# Altium footprint library 不带继电器产品.PcbLib: 31 footprints (part 2 of 2)
Each footprint in its own frame and in the unit in brackets; x right, y up, seen from the top. Pads: shape width x height; smd on the part's side, far side on the other; paste and mask are expansions set on the pad; w line width, h text height; cw(c..) or ccw(c..) is an arc to the next point about the centre after c.
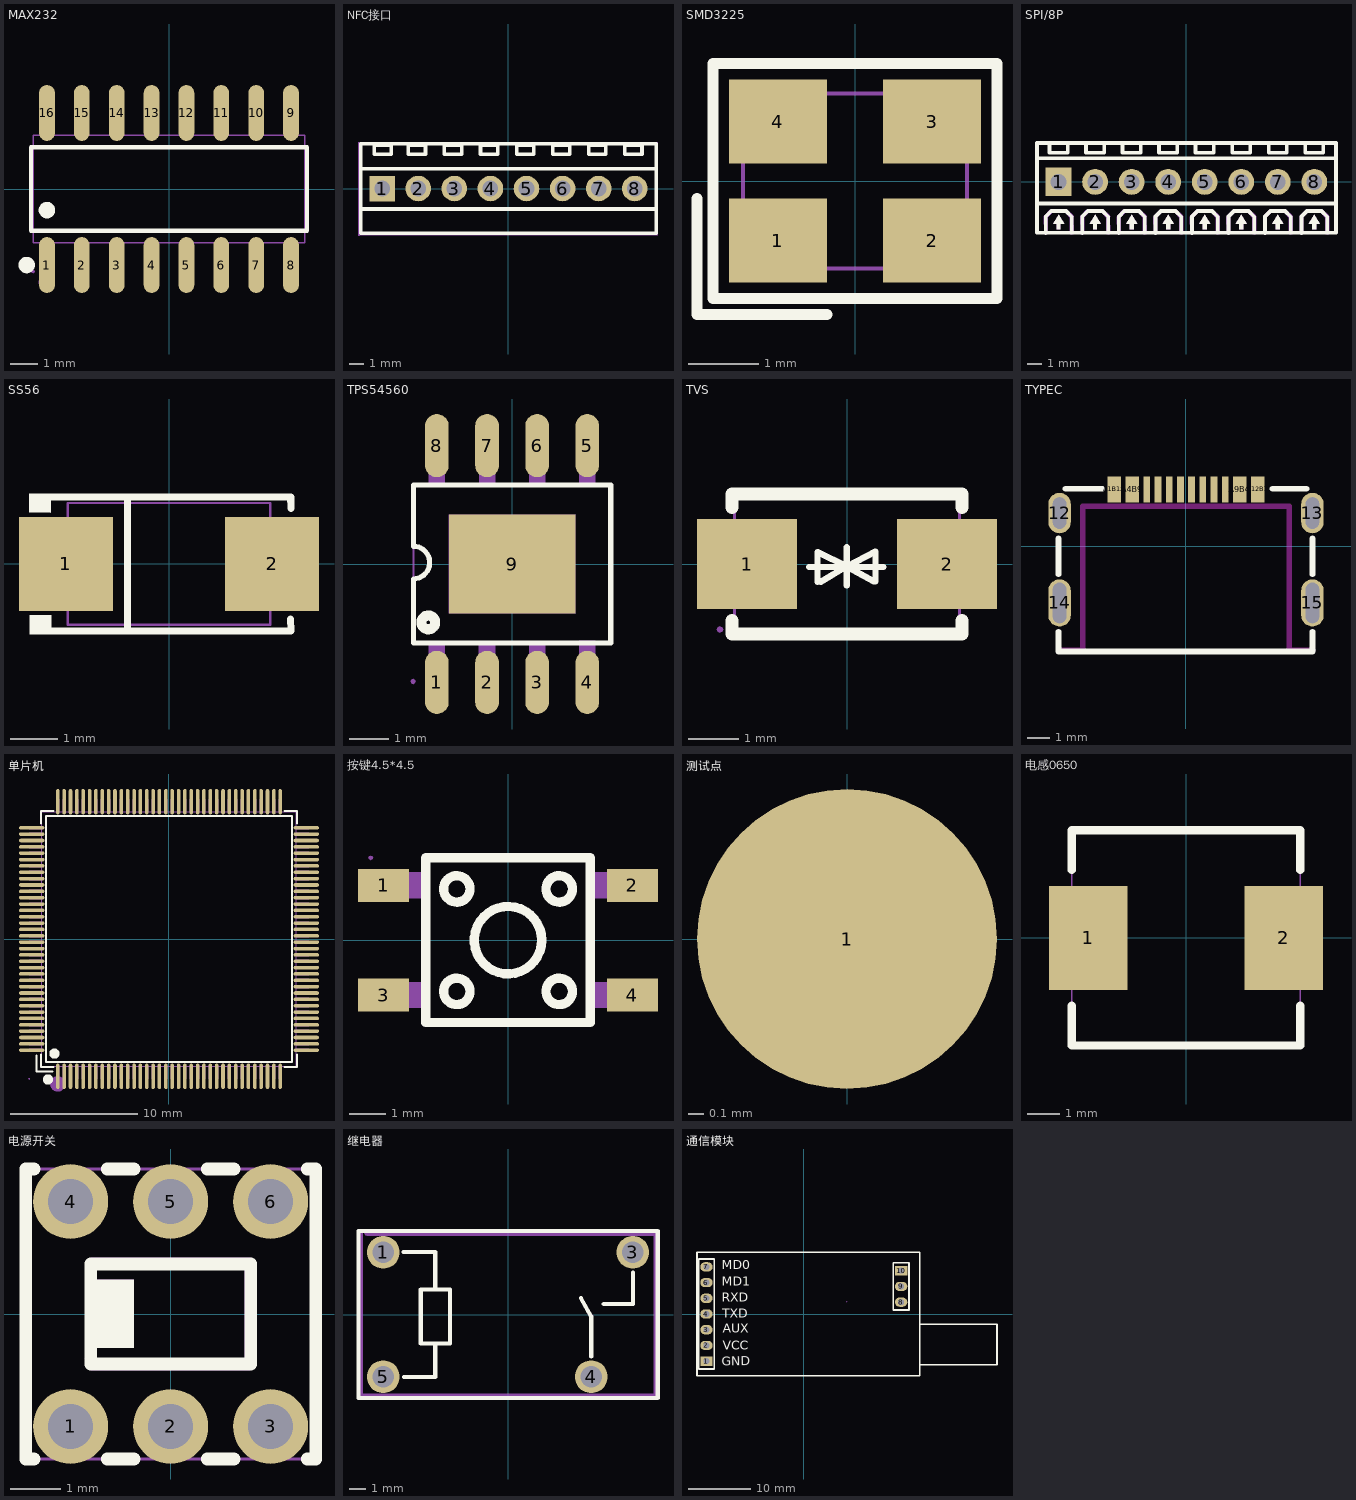
[diagram p1: the footprints below, top view; thin cyan lines are the x and y axes]

## MAX232 [mm]
pads (16):
  oval 0.574x2.038 smd: 1(-4.445,-2.769) 2(-3.175,-2.769) 3(-1.905,-2.769) 4(-0.635,-2.769) 5(0.635,-2.769) 6(1.905,-2.769) 7(3.175,-2.769) 8(4.445,-2.769) 9(4.445,2.769) 10(3.175,2.769) 11(1.905,2.769) 12(0.635,2.769) 13(-0.635,2.769) 14(-1.905,2.769) 15(-3.175,2.769) 16(-4.445,2.769)
Top Overlay:
  circle w0.3: c-4.445,-0.769 r0.15
  circle w0.3: c-5.184,-2.769 r0.15
  lines w0.152: -5.026,-1.521 5.026,-1.521 5.026,1.521 -5.026,1.521 -5.026,-1.521
Mechanical 6:
  circle w0.3: c-4.445,-3.4 r0.15
Mechanical 15:
  region: -4.886,-3 -4.904,-2.955 -4.95,-2.936 -4.996,-2.955 -5.014,-3 -4.996,-3.045 -4.95,-3.064 -4.904,-3.045
  region: 4.23,1.94 4.23,2.36 4.66,2.36 4.66,1.94
  region: 4.23,2.35 4.23,3 4.66,3 4.66,2.35
  region: 2.96,1.94 2.96,2.36 3.39,2.36 3.39,1.94
  region: 2.96,2.35 2.96,3 3.39,3 3.39,2.35
  region: 1.69,1.94 1.69,2.36 2.12,2.36 2.12,1.94
  region: 1.69,2.35 1.69,3 2.12,3 2.12,2.35
  region: 0.42,1.94 0.42,2.36 0.85,2.36 0.85,1.94
  region: 0.42,2.35 0.42,3 0.85,3 0.85,2.35
  region: -0.85,1.94 -0.85,2.36 -0.42,2.36 -0.42,1.94
  region: -0.85,2.35 -0.85,3 -0.42,3 -0.42,2.35
  region: -2.12,1.94 -2.12,2.36 -1.69,2.36 -1.69,1.94
  region: -2.12,2.35 -2.12,3 -1.69,3 -1.69,2.35
  region: -3.39,1.94 -3.39,2.36 -2.96,2.36 -2.96,1.94
  region: -3.39,2.35 -3.39,3 -2.96,3 -2.96,2.35
  region: -4.66,1.94 -4.66,2.36 -4.23,2.36 -4.23,1.94
  region: -4.66,2.35 -4.66,3 -4.23,3 -4.23,2.35
  region: 4.23,-2.36 4.23,-1.94 4.66,-1.94 4.66,-2.36
  region: 4.23,-3 4.23,-2.35 4.66,-2.35 4.66,-3
  region: 2.96,-2.36 2.96,-1.94 3.39,-1.94 3.39,-2.36
  region: 2.96,-3 2.96,-2.35 3.39,-2.35 3.39,-3
  region: 1.69,-2.36 1.69,-1.94 2.12,-1.94 2.12,-2.36
  region: 1.69,-3 1.69,-2.35 2.12,-2.35 2.12,-3
  region: 0.42,-2.36 0.42,-1.94 0.85,-1.94 0.85,-2.36
  region: 0.42,-3 0.42,-2.35 0.85,-2.35 0.85,-3
  region: -0.85,-2.36 -0.85,-1.94 -0.42,-1.94 -0.42,-2.36
  region: -0.85,-3 -0.85,-2.35 -0.42,-2.35 -0.42,-3
  region: -2.12,-2.36 -2.12,-1.94 -1.69,-1.94 -1.69,-2.36
  region: -2.12,-3 -2.12,-2.35 -1.69,-2.35 -1.69,-3
  region: -3.39,-2.36 -3.39,-1.94 -2.96,-1.94 -2.96,-2.36
  region: -3.39,-3 -3.39,-2.35 -2.96,-2.35 -2.96,-3
  region: -4.66,-2.36 -4.66,-1.94 -4.23,-1.94 -4.23,-2.36
  region: -4.66,-3 -4.66,-2.35 -4.23,-2.35 -4.23,-3
  lines w0.051: -4.95,-1.95 -4.95,1.95 4.95,1.95 4.95,-1.95 -4.95,-1.95

## NFC接口 [mm]
pads (8):
  rect 1.8x1.8 hole 1.1: 1(-8.89,0)
  round 1.8 hole 1.1: 2(-6.35,0) 3(-3.81,0) 4(-1.27,0) 5(1.27,0) 6(3.81,0) 7(6.35,0) 8(8.89,0)
Top Overlay:
  lines w0.254: -10.4,-1.443 10.4,-1.443 ; -10.4,1.395 10.4,1.395 ; -10.4,-3.14 10.4,-3.14 10.4,3.139 -10.4,3.139 -10.4,-3.14 ; -9.461,2.413 -9.461,3.048 -8.255,3.048 -8.255,2.413 -9.461,2.413 ; -7.048,2.413 -7.048,3.048 -5.842,3.048 -5.842,2.413 -7.048,2.413 ; -4.508,2.413 -4.508,3.048 -3.302,3.048 -3.302,2.413 -4.508,2.413 ; -1.968,2.413 -1.968,3.048 -0.762,3.048 -0.762,2.413 -1.968,2.413 ; 0.572,2.413 0.572,3.048 1.778,3.048 1.778,2.413 0.572,2.413 ; 3.111,2.413 3.111,3.048 4.318,3.048 4.318,2.413 3.111,2.413 ; 5.651,2.413 5.651,3.048 6.858,3.048 6.858,2.413 5.651,2.413 ; 8.191,2.413 8.191,3.048 9.398,3.048 9.398,2.413 8.191,2.413
Mechanical 15:
  drawing of 13 lines, arcs and shapes, not listed

## SMD3225 [mm]
pads (4):
  rect 1.4x1.2 smd: 1(-1.1,-0.85) 2(1.1,-0.85) 3(1.1,0.85) 4(-1.1,0.85)
Top Overlay:
  lines w0.152: -2.257,-0.25 -2.257,-1.907 -0.4,-1.907 ; -2.029,-1.678 -2.029,1.679 2.029,1.679 2.029,-1.678 -2.029,-1.678
Mechanical 6:
  circle w0.254: c-1.27,-0.889 r0.127
Mechanical 15:
  region: -1.535,-1.25 -1.554,-1.204 -1.6,-1.185 -1.646,-1.204 -1.665,-1.25 -1.646,-1.296 -1.6,-1.315 -1.554,-1.296 -1.535,-1.25
  region: -1.5,1.15 -0.6,1.15 -0.6,0.35 -1.5,0.35
  region: 0.6,1.15 1.5,1.15 1.5,0.35 0.6,0.35
  region: 0.6,-0.35 1.5,-0.35 1.5,-1.15 0.6,-1.15
  region: -1.5,-0.35 -0.6,-0.35 -0.6,-1.15 -1.5,-1.15
  lines w0.051: -1.6,-1.25 -1.6,1.25 1.6,1.25 1.6,-1.25 -1.6,-1.25

## SPI/8P [mm]
pads (8):
  rect 1.8x2 hole 1.1 paste+0 mask+0.05: 1(-8.89,0)
  round 1.8 hole 1.1 paste+0 mask+0.05: 2(-6.35,0) 3(-3.81,0) 4(-1.27,0) 5(1.27,0) 6(3.81,0) 7(6.35,0) 8(8.89,0)
Top Overlay:
  region: -9.271,-2.921 -8.509,-2.921 -8.89,-2.286
  region: -9.017,-2.921 -9.017,-3.302 -8.763,-3.302 -8.763,-2.921
  region: -6.731,-2.921 -5.969,-2.921 -6.35,-2.286
  region: -6.477,-2.921 -6.477,-3.302 -6.223,-3.302 -6.223,-2.921
  region: -4.191,-2.921 -3.429,-2.921 -3.81,-2.286
  region: -3.937,-2.921 -3.937,-3.302 -3.683,-3.302 -3.683,-2.921
  region: -1.651,-2.921 -0.889,-2.921 -1.27,-2.286
  region: -1.397,-2.921 -1.397,-3.302 -1.143,-3.302 -1.143,-2.921
  region: 3.429,-2.921 4.191,-2.921 3.81,-2.286
  region: 3.683,-2.921 3.683,-3.302 3.937,-3.302 3.937,-2.921
  region: 1.143,-2.921 1.143,-3.302 1.397,-3.302 1.397,-2.921
  region: 0.889,-2.921 1.651,-2.921 1.27,-2.286
  region: 5.969,-2.921 6.731,-2.921 6.35,-2.286
  region: 6.223,-2.921 6.223,-3.302 6.477,-3.302 6.477,-2.921
  region: 8.763,-2.921 8.763,-3.302 9.017,-3.302 9.017,-2.921
  region: 8.509,-2.921 9.271,-2.921 8.89,-2.286
  lines w0.254: -10.4,-1.502 5.32,-1.502 10.4,-1.502 ; -10.4,1.651 5.32,1.651 10.4,1.651 ; -9.779,-3.556 -9.779,-2.413 -9.398,-2.032 -8.382,-2.032 -7.988,-2.426 -7.988,-3.55 ; -9.527,2.7 -9.527,2.032 -8.255,2.032 -8.255,2.7 ; -7.239,-3.556 -7.239,-2.413 -6.858,-2.032 -5.842,-2.032 -5.448,-2.426 -5.448,-3.55 ; -6.987,2.7 -6.987,2.032 -5.715,2.032 -5.715,2.7 ; -4.699,-3.556 -4.699,-2.413 -4.318,-2.032 -3.302,-2.032 -2.908,-2.426 -2.908,-3.55 ; -4.447,2.7 -4.447,2.032 -3.175,2.032 -3.175,2.7 ; -2.159,-3.556 -2.159,-2.413 -1.778,-2.032 -0.762,-2.032 -0.368,-2.426 -0.368,-3.55 ; -1.907,2.7 -1.907,2.032 -0.635,2.032 -0.635,2.7 ; 0.381,-3.556 0.381,-2.413 0.762,-2.032 1.778,-2.032 2.172,-2.426 2.172,-3.55 ; 0.633,2.7 0.633,2.032 1.905,2.032 1.905,2.7 ; 2.921,-3.556 2.921,-2.413 3.302,-2.032 4.318,-2.032 4.712,-2.426 4.712,-3.55 ; 3.173,2.7 3.173,2.032 4.445,2.032 4.445,2.7 ; 5.461,-3.556 5.461,-2.413 5.842,-2.032 6.858,-2.032 7.252,-2.426 7.252,-3.55 ; 5.713,2.7 5.713,2.032 6.985,2.032 6.985,2.7 ; 8.001,-3.556 8.001,-2.413 8.382,-2.032 9.398,-2.032 9.792,-2.426 9.792,-3.55 ; 8.253,2.7 8.253,2.032 9.525,2.032 9.525,2.7 ; -10.4,-3.55 5.32,-3.55 10.4,-3.55 10.4,2.7 5.32,2.7 -10.4,2.7 -10.4,-3.55
Mechanical 6:
  drawing of 24 lines, arcs and shapes, not listed
Mechanical 15:
  region: -10.335,-3.55 -10.354,-3.504 -10.4,-3.485 -10.446,-3.504 -10.465,-3.55 -10.446,-3.596 -10.4,-3.615 -10.354,-3.596
  region: -9.24,0.25 -8.54,0.25 -8.54,-0.25 -9.24,-0.25
  region: -6.7,0.25 -6,0.25 -6,-0.25 -6.7,-0.25
  region: -4.16,0.25 -3.46,0.25 -3.46,-0.25 -4.16,-0.25
  region: -1.62,0.25 -0.92,0.25 -0.92,-0.25 -1.62,-0.25
  region: 0.92,0.25 1.62,0.25 1.62,-0.25 0.92,-0.25
  region: 3.46,0.25 4.16,0.25 4.16,-0.25 3.46,-0.25
  region: 8.54,0.25 9.24,0.25 9.24,-0.25 8.54,-0.25
  region: 6,0.25 6.7,0.25 6.7,-0.25 6,-0.25
  lines w0.051: -10.4,-3.55 -10.4,2.7 10.4,2.7 10.4,-3.55 -10.4,-3.55

## SS56 [mm]
pads (2):
  rect 2x2 smd: 1(-2.2,0) 2(2.2,0)
Top Overlay:
  region: -2.512,-1.096 -2.513,-1.503 -2.973,-1.498 -2.969,-1.096
  region: -2.52,1.502 -2.521,1.096 -2.981,1.1 -2.977,1.502
  lines w0.152: -2.596,-1.426 2.596,-1.426 ; -2.596,1.426 2.596,1.426 2.603,1.187 ; -0.884,-1.426 -0.884,1.426 ; 2.593,-1.176 2.6,-1.415
Mechanical 6:
  region: 2.014,-0.675 2.014,0.675 1.811,0.675 1.811,-0.675
  region: 2.29,-0.09 2.29,0.112 1.48,0.112 1.48,-0.09
  region: -2.317,-0.101 -2.317,0.101 -1.507,0.101 -1.507,-0.101
Mechanical 15:
  region: -1.48,0.725 -1.48,-0.725 -2.605,-0.725 -2.605,0.725
  region: 2.605,0.725 2.605,-0.725 1.48,-0.725 1.48,0.725
  region: -2.541,-1.3 -2.559,-1.255 -2.605,-1.236 -2.651,-1.255 -2.669,-1.3 -2.651,-1.345 -2.605,-1.364 -2.559,-1.345
  lines w0.051: -2.16,-1.3 2.16,-1.3 2.16,1.3 -2.16,1.3 -2.16,-1.3

## TPS54560 [mm]
pads (9):
  oval 0.6x1.6 smd paste+0 mask+0.051: 1(-1.905,-3) 2(-0.635,-3) 3(0.635,-3) 4(1.905,-3) 5(1.905,3) 6(0.635,3) 7(-0.635,3) 8(-1.905,3)
  rect 3.2x2.5 smd paste+0 mask+0.051: 9(0,0)
Top Overlay:
  circle w0.254: c-2.123,-1.48 r0.175
  lines w0.129: -2.499,-0.376 ccw(c-2.5,0.037) -2.5,0.45 -2.5,2 2.5,2 2.5,-2 -2.5,-2 -2.5,-0.375
Mechanical 6:
  circle w0.2: c-1.898,-3.235 r0.1
Mechanical 15:
  region: 2.11,2.58 1.7,2.58 1.7,2.98 2.11,2.98
  region: 2.11,1.962 1.7,1.962 1.7,2.582 2.11,2.582
  region: 0.84,2.597 0.43,2.597 0.43,2.997 0.84,2.997
  region: 0.843,1.982 0.433,1.982 0.433,2.602 0.843,2.602
  region: -0.43,2.605 -0.84,2.605 -0.84,3.005 -0.43,3.005
  region: -0.427,1.99 -0.837,1.99 -0.837,2.61 -0.427,2.61
  region: -1.7,2.577 -2.11,2.577 -2.11,2.977 -1.7,2.977
  region: -1.7,1.962 -2.11,1.962 -2.11,2.582 -1.7,2.582
  region: 2.11,-2.962 1.7,-2.962 1.7,-2.562 2.11,-2.562
  region: 2.11,-2.568 1.7,-2.568 1.7,-1.948 2.11,-1.948
  region: 0.84,-2.97 0.43,-2.97 0.43,-2.57 0.84,-2.57
  region: 0.84,-2.573 0.43,-2.573 0.43,-1.953 0.84,-1.953
  region: -0.43,-2.972 -0.84,-2.972 -0.84,-2.572 -0.43,-2.572
  region: -0.43,-2.576 -0.84,-2.576 -0.84,-1.956 -0.43,-1.956
  region: -1.7,-2.97 -2.11,-2.97 -2.11,-2.57 -1.7,-2.57
  region: -1.7,-2.573 -2.11,-2.573 -2.11,-1.953 -1.7,-1.953
  region: -1.6,1.25 1.6,1.25 1.6,-1.25 -1.6,-1.25
  region: -2.506,-2.912 -2.551,-2.93 -2.57,-2.976 -2.551,-3.022 -2.506,-3.041 -2.462,-3.022 -2.443,-2.976 -2.462,-2.93
  lines w0.051: -2.5,-1.97 -2.5,2.03 2.5,2.03 2.5,-1.97 -2.5,-1.97

## TVS [mm]
pads (2):
  rect 2x1.8 smd: 1(-2,0) 2(2,0)
Top Overlay:
  lines w0.127: -0.76,-0.06 0.73,-0.06 ; -0.59,-0.36 -0.59,0.24 -0.002,-0.049 ; -0.53,-0.36 -0.002,-0.049 ; -0.002,-0.43 -0.002,-0.049 ; -0.002,0.332 -0.002,-0.049 ; 0.54,-0.35 -0.002,-0.049 ; 0.57,-0.35 0.57,0.25 -0.002,-0.049
  lines w0.254: -2.3,-1.131 -2.3,-1.4 2.3,-1.4 2.3,-1.131 ; -2.3,1.131 -2.3,1.4 2.3,1.4 2.3,1.131
Mechanical 15:
  region: -2.542,-0.725 -2.542,0.725 -1.458,0.725 -1.458,-0.725
  region: 1.458,-0.725 1.458,0.725 2.542,0.725 2.542,-0.725
  region: -2.478,-1.308 -2.497,-1.263 -2.543,-1.244 -2.588,-1.263 -2.607,-1.307 -2.607,-1.308 -2.588,-1.352 -2.543,-1.371 -2.497,-1.352
  lines w0.051: -2.25,-1.308 -2.25,1.307 2.25,1.307 2.25,-1.308 -2.25,-1.308

## TYPEC [mm]
pads (16):
  oval 1x1.8 hole 0.6 slot 1.4 at 90 deg: 12(-5.625,1.475)
  oval 1x1.8 hole 0.6 slot 1.4 at 90 deg copper offset 0,0: 13(5.625,1.475)
  oval 1x2.1 hole 0.6 slot 1.8 at 90 deg: 14(-5.625,-2.525)
  oval 1x2.1 hole 0.6 slot 1.8 at 90 deg copper offset 0,0: 15(5.625,-2.525)
  rect 0.6x1.15 smd paste+0 mask+0.05: A1B12(-3.2,2.525) A4B9(-2.4,2.525) A9B4(2.4,2.525) A12B1(3.2,2.525)
  rect 0.3x1.15 smd paste+0 mask+0.05: A5(-1.25,2.525) A6(-0.25,2.525) A7(0.25,2.525) A8(1.25,2.525) B5(1.75,2.525) B6(0.75,2.525) B7(-0.75,2.525) B8(-1.75,2.525)
Top Overlay:
  lines w0.254: -5.678,-3.804 -5.678,-4.684 5.625,-4.684 5.625,-3.806 ; -5.678,-1.246 -5.678,0.346 ; -5.361,2.555 -3.731,2.555 ; 3.847,2.555 5.361,2.555 ; 5.625,-1.244 5.625,0.344
Keep-Out Layer:
  lines w0.254: -4.6,-4.625 -5.625,-4.625 -4.6,-4.625 ; -4.6,-4.625 -4.6,-1.397 -4.6,-4.625 ; -4.6,1.778 4.572,1.778 -4.6,1.778 ; -4.6,1.778 -4.6,-1.494 -4.6,1.778 ; 4.6,-4.625 5.625,-4.625 4.6,-4.625 ; 4.6,-4.625 4.6,-1.397 ; 4.6,-4.625 4.6,-1.397 ; 4.6,-1.397 4.6,1.778 4.6,-1.397

## 单片机 [mm]
pads (144):
  oval 0.28x2 smd: 1(-8.75,-10.8) 2(-8.25,-10.8) 3(-7.75,-10.8) 4(-7.25,-10.8) 5(-6.75,-10.8) 6(-6.25,-10.8) 7(-5.75,-10.8) 8(-5.25,-10.8) 9(-4.75,-10.8) 10(-4.25,-10.8) 11(-3.75,-10.8) 12(-3.25,-10.8) 13(-2.75,-10.8) 14(-2.25,-10.8) 15(-1.75,-10.8) 16(-1.25,-10.8) 17(-0.75,-10.8) 18(-0.25,-10.8) 19(0.25,-10.8) 20(0.75,-10.8) 21(1.25,-10.8) 22(1.75,-10.8) 23(2.25,-10.8) 24(2.75,-10.8) 25(3.25,-10.8) 26(3.75,-10.8) 27(4.25,-10.8) 28(4.75,-10.8) 29(5.25,-10.8) 30(5.75,-10.8) 31(6.25,-10.8) 32(6.75,-10.8) 33(7.25,-10.8) 34(7.75,-10.8) 35(8.25,-10.8) 36(8.75,-10.8) 73(8.75,10.8) 74(8.25,10.8) 75(7.75,10.8) 76(7.25,10.8) 77(6.75,10.8) 78(6.25,10.8) 79(5.75,10.8) 80(5.25,10.8) 81(4.75,10.8) 82(4.25,10.8) 83(3.75,10.8) 84(3.25,10.8) 85(2.75,10.8) 86(2.25,10.8) 87(1.75,10.8) 88(1.25,10.8) 89(0.75,10.8) 90(0.25,10.8) 91(-0.25,10.8) 92(-0.75,10.8) 93(-1.25,10.8) 94(-1.75,10.8) 95(-2.25,10.8) 96(-2.75,10.8) 97(-3.25,10.8) 98(-3.75,10.8) 99(-4.25,10.8) 100(-4.75,10.8) 101(-5.25,10.8) 102(-5.75,10.8) 103(-6.25,10.8) 104(-6.75,10.8) 105(-7.25,10.8) 106(-7.75,10.8) 107(-8.25,10.8) 108(-8.75,10.8)
  oval 2x0.28 smd: 37(10.8,-8.75) 38(10.8,-8.25) 39(10.8,-7.75) 40(10.8,-7.25) 41(10.8,-6.75) 42(10.8,-6.25) 43(10.8,-5.75) 44(10.8,-5.25) 45(10.8,-4.75) 46(10.8,-4.25) 47(10.8,-3.75) 48(10.8,-3.25) 49(10.8,-2.75) 50(10.8,-2.25) 51(10.8,-1.75) 52(10.8,-1.25) 53(10.8,-0.75) 54(10.8,-0.25) 55(10.8,0.25) 56(10.8,0.75) 57(10.8,1.25) 58(10.8,1.75) 59(10.8,2.25) 60(10.8,2.75) 61(10.8,3.25) 62(10.8,3.75) 63(10.8,4.25) 64(10.8,4.75) 65(10.8,5.25) 66(10.8,5.75) 67(10.8,6.25) 68(10.8,6.75) 69(10.8,7.25) 70(10.8,7.75) 71(10.8,8.25) 72(10.8,8.75) 109(-10.8,8.75) 110(-10.8,8.25) 111(-10.8,7.75) 112(-10.8,7.25) 113(-10.8,6.75) 114(-10.8,6.25) 115(-10.8,5.75) 116(-10.8,5.25) 117(-10.8,4.75) 118(-10.8,4.25) 119(-10.8,3.75) 120(-10.8,3.25) 121(-10.8,2.75) 122(-10.8,2.25) 123(-10.8,1.75) 124(-10.8,1.25) 125(-10.8,0.75) 126(-10.8,0.25) 127(-10.8,-0.25) 128(-10.8,-0.75) 129(-10.8,-1.25) 130(-10.8,-1.75) 131(-10.8,-2.25) 132(-10.8,-2.75) 133(-10.8,-3.25) 134(-10.8,-3.75) 135(-10.8,-4.25) 136(-10.8,-4.75) 137(-10.8,-5.25) 138(-10.8,-5.75) 139(-10.8,-6.25) 140(-10.8,-6.75) 141(-10.8,-7.25) 142(-10.8,-7.75) 143(-10.8,-8.25) 144(-10.8,-8.75)
Top Overlay:
  circle w0.4: c-9.017,-9.017 r0.2
  circle w0.4: c-9.525,-11.049 r0.2
  lines w0.152: -10.414,-9.144 -10.414,-10.414 -9.144,-10.414 ; -10.076,-9.081 -10.076,-10.076 -9.08,-10.076 ; -10.076,9.08 -10.076,10.076 -9.08,10.076 ; 9.081,-10.076 10.076,-10.076 10.076,-9.081 ; 9.081,10.076 10.076,10.076 10.076,9.08 ; -9.671,-9.671 9.671,-9.671 9.671,9.671 -9.671,9.671 -9.671,-9.671
Mechanical 6:
  circle w0.6: c-8.75,-11.4 r0.3
Mechanical 15:
  drawing of 293 lines, arcs and shapes, not listed

## 按键4.5*4.5 [mm]
pads (4):
  rect 1.4x0.9 smd: 1(-3.4,1.5) 2(3.4,1.5) 3(-3.4,-1.5) 4(3.4,-1.5)
Top Overlay:
  circle w0.254: c1.4,-1.4 r0.361
  circle w0.254: c-1.4,-1.4 r0.361
  circle w0.254: c-1.4,1.4 r0.361
  circle w0.254: c1.4,1.4 r0.361
  circle w0.254: c0,0 r0.922
  lines w0.254: -2.25,-2.25 -2.25,2.25 2.25,2.25 2.25,-2.25 -2.25,-2.25
Mechanical 15:
  region: -3.75,1.15 -3.75,1.85 -3.25,1.85 -3.25,1.15
  region: -3.26,1.15 -3.26,1.85 -2.24,1.85 -2.24,1.15
  region: 3.25,1.15 3.25,1.85 3.75,1.85 3.75,1.15
  region: 2.24,1.15 2.24,1.85 3.26,1.85 3.26,1.15
  region: -3.75,-1.85 -3.75,-1.15 -3.25,-1.15 -3.25,-1.85
  region: -3.26,-1.85 -3.26,-1.15 -2.24,-1.15 -2.24,-1.85
  region: 3.25,-1.85 3.25,-1.15 3.75,-1.15 3.75,-1.85
  region: 2.24,-1.85 2.24,-1.15 3.26,-1.15 3.26,-1.85
  region: -3.686,2.25 -3.704,2.295 -3.75,2.314 -3.796,2.295 -3.814,2.25 -3.796,2.205 -3.75,2.186 -3.704,2.205
  lines w0.051: -2.25,-2.25 2.25,-2.25 2.25,2.25 -2.25,2.25 -2.25,-2.25

## 测试点 [mm]
pads (1):
  round 2 smd: 1(0,0)

## 电感0650 [mm]
pads (2):
  rect 2.4x3.2 smd paste+0 mask+0.051: 1(-3,0) 2(3,0)
Top Overlay:
  lines w0.254: -3.5,-2.081 -3.5,-3.3 -3.49,-3.3 3.5,-3.3 3.5,-2.081 ; -3.5,2.081 -3.5,3.3 3.48,3.3 3.5,3.28 ; 3.5,2.081 3.5,3.3
Mechanical 15:
  region: -3.5,-3.236 -3.545,-3.254 -3.564,-3.3 -3.545,-3.346 -3.5,-3.364 -3.455,-3.346 -3.436,-3.3 -3.455,-3.254
  region: 1.9,1.5 3.5,1.5 3.5,-1.5 1.9,-1.5
  region: -1.9,-1.5 -3.5,-1.5 -3.5,1.5 -1.9,1.5
  lines w0.051: -3.5,-3.3 -3.5,3.3 3.5,3.3 3.5,-3.3 -3.5,-3.3

## 电源开关 [mm]
pads (6):
  round 1.5 hole 0.9 paste+0 mask+0.05: 1(-2,-2.25) 2(0,-2.25) 3(2,-2.25) 4(-2,2.25) 5(0,2.25) 6(2,2.25)
Top Overlay:
  region: -0.74,0.68 -0.74,-0.67 -1.48,-0.67 -1.48,0.68
  lines w0.254: -2.734,-2.9 -2.9,-2.9 -2.9,-1.749 -2.9,1.749 -2.9,2.9 -2.734,2.9 ; -1.266,-2.9 -0.734,-2.9 ; -1.266,2.9 -0.734,2.9 ; 0.734,-2.9 1.266,-2.9 ; 0.734,2.9 1.266,2.9 ; 2.734,-2.9 2.9,-2.9 2.9,-1.749 2.9,1.749 2.9,2.9 2.734,2.9 ; -1.6,-1 1.6,-1 1.6,1 -1.6,1 -1.6,-1
Mechanical 6:
  region: -1.72,-0.88 -1.6,-1.12 1.59,-1.12 1.72,-0.99 1.72,1.01 1.61,1.12 -1.6,1.12 -1.71,1.05 -1.71,-0.87 -1.48,-0.87 -1.48,0.88 1.48,0.88 1.48,-0.88
  region: -0.74,0.68 -0.74,-0.67 -1.48,-0.67 -1.48,0.68
Mechanical 15:
  region: -2.835,-2.9 -2.854,-2.854 -2.9,-2.835 -2.946,-2.854 -2.965,-2.9 -2.946,-2.946 -2.9,-2.965 -2.854,-2.946
  region: -2.3,-2.1 -1.7,-2.1 -1.7,-2.4 -2.3,-2.4
  region: -0.3,-2.1 0.3,-2.1 0.3,-2.4 -0.3,-2.4
  region: 1.7,-2.1 2.3,-2.1 2.3,-2.4 1.7,-2.4
  region: 1.7,2.4 2.3,2.4 2.3,2.1 1.7,2.1
  region: -0.3,2.4 0.3,2.4 0.3,2.1 -0.3,2.1
  region: -2.3,2.4 -1.7,2.4 -1.7,2.1 -2.3,2.1
  lines w0.051: -2.9,-2.9 2.9,-2.9 2.9,2.9 -2.9,2.9 -2.9,-2.9

## 继电器 [mm]
pads (4):
  round 2 hole 1.3: 1(-7.62,3.8) 3(7.62,3.8) 4(5.08,-3.8) 5(-7.62,-3.8)
Top Overlay:
  lines w0.254: -6.389,3.81 -4.445,3.81 -4.445,1.524 ; -6.35,-3.81 -4.445,-3.81 -4.445,-1.778 ; 4.445,1.016 5.08,-0.127 5.08,-2.569 ; 5.842,0.635 7.62,0.635 7.62,2.569 ; -9.144,-5.1 9.144,-5.1 9.144,5.1 -9.144,5.1 -9.144,-5.1 ; -5.334,-1.778 -3.556,-1.778 -3.556,1.524 -5.334,1.524 -5.334,-1.778
Mechanical 6:
  region: -8.89,4.953 -8.89,-4.826 8.89,-4.826 8.89,4.826 -8.636,4.815 -8.733,4.856 -8.773,4.953 -8.733,5.05 -8.636,5.09 -8.636,5.08 9.017,5.09 9.114,5.05 9.155,4.953 9.144,4.953 9.155,-4.953 9.114,-5.05 9.017,-5.091 9.017,-5.08 -9.017,-5.091 -9.114,-5.05 -9.154,-4.953 -9.144,-4.953 -9.154,4.953 -9.114,5.05 -9.017,5.09 -8.92,5.05 -8.879,4.953
Mechanical 15:
  region: 7.42,3.3 7.42,4.3 7.82,4.3 7.82,3.3
  region: 4.93,-4.3 4.93,-3.3 5.23,-3.3 5.23,-4.3
  region: -7.87,-3.55 -7.37,-3.55 -7.37,-4.05 -7.87,-4.05
  region: -7.87,4.05 -7.37,4.05 -7.37,3.55 -7.87,3.55
  region: -9.035,5.1 -9.054,5.146 -9.1,5.165 -9.146,5.146 -9.165,5.1 -9.146,5.054 -9.1,5.035 -9.054,5.054
  lines w0.051: -9.1,-5.1 -9.1,5.1 9.1,5.1 9.1,-5.1 -9.1,-5.1

## 通信模块 [mm]
pads (10):
  rect 2x1.5 hole 0.9 slot 0.905 at 0 deg: 1(-15.736,-7.62) 10(15.736,7)
  oval 2x1.5 hole 0.9 slot 0.905 at 0 deg: 2(-15.736,-5.08) 3(-15.736,-2.54) 4(-15.736,0) 5(-15.736,2.54) 6(-15.736,5.08) 7(-15.736,7.62) 8(15.736,1.92) 9(15.736,4.46)
Top Overlay:
  lines w0.254: 18.735,-8.199 23.033,-8.199 31.235,-8.199 ; 18.736,-1.65 31.236,-1.65 31.236,-8.2 ; -17.264,-10 -17.264,10 18.736,10 18.736,-10 -17.264,-10 ; -17.006,-8.89 -14.466,-8.89 -14.466,8.89 -17.006,8.89 -17.006,-8.89 ; 14.466,0.65 17.006,0.65 17.006,8.27 14.466,8.27 14.466,0.65
  text "MD0" at -13.243,7.272 h1.5
  text "MD1" at -13.243,4.553 h1.5
  text "RXD" at -13.251,1.994 h1.5
  text "TXD" at -13.218,-0.578 h1.5
  text "AUX" at -13.073,-3.018 h1.5
  text "VCC" at -13.081,-5.747 h1.5
  text "GND" at -13.256,-8.349 h1.5
Mechanical 15:
  lines w0.003: 6.961,2.014 7.011,2.065